# EAGLE library part PDIP_28 (library BHARADWAJ-AtMega8L)
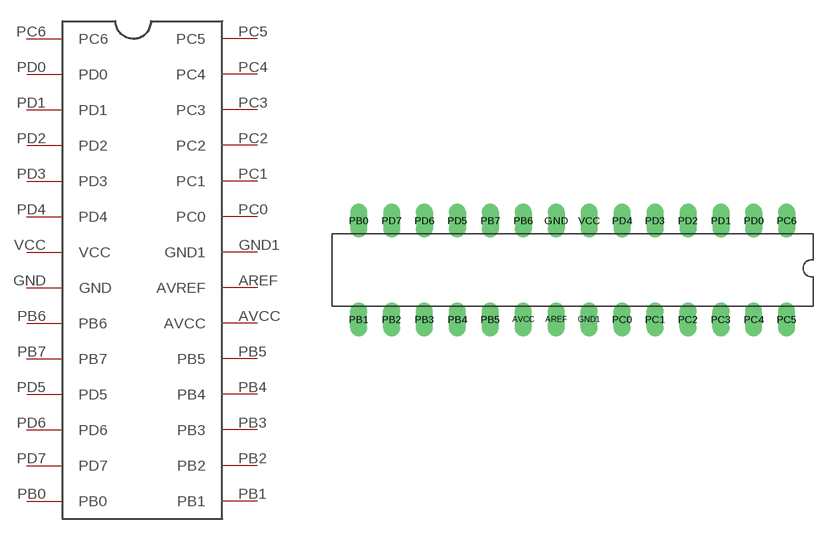
[diagram p2: symbol with the pads of PDIP_28; footprint PDIP_28]

Designator prefix -

## PDIP_28  [PDIP_28]
AREF  AVREF
AVCC  AVCC
GND  GND
GND1  GND1
PB0  PB0
PB1  PB1
PB2  PB2
PB3  PB3
PB4  PB4
PB5  PB5
PB6  PB6
PB7  PB7
PC0  PC0
PC1  PC1
PC2  PC2
PC3  PC3
PC4  PC4
PC5  PC5
PC6  PC6
PD0  PD0
PD1  PD1
PD2  PD2
PD3  PD3
PD4  PD4
PD5  PD5
PD6  PD6
PD7  PD7
VCC  VCC

## Footprint PDIP_28 (pad centres in mm)
drill 0.812 long: AREF -1.27,-3.81; AVCC -3.81,-3.81; GND -1.27,3.81; GND1 1.27,-3.81; PB0 -16.51,3.81; PB1 -16.51,-3.81; PB2 -13.97,-3.81; PB3 -11.43,-3.81; PB4 -8.89,-3.81; PB5 -6.35,-3.81; PB6 -3.81,3.81; PB7 -6.35,3.81; PC0 3.81,-3.81; PC1 6.35,-3.81; PC2 8.89,-3.81; PC3 11.43,-3.81; PC4 13.97,-3.81; PC5 16.51,-3.81; PC6 16.51,3.81; PD0 13.97,3.81; PD1 11.43,3.81; PD2 8.89,3.81; PD3 6.35,3.81; PD4 3.81,3.81; PD5 -8.89,3.81; PD6 -11.43,3.81; PD7 -13.97,3.81; VCC 1.27,3.81